# Altium footprint library MICROSMD110F-2.PcbLib: 2 footprints
Each footprint in its own frame and in the unit in brackets; x right, y up, seen from the top. Pads: shape width x height; smd on the part's side, far side on the other; paste and mask are expansions set on the pad; w line width, h text height; cw(c..) or ccw(c..) is an arc to the next point about the centre after c.
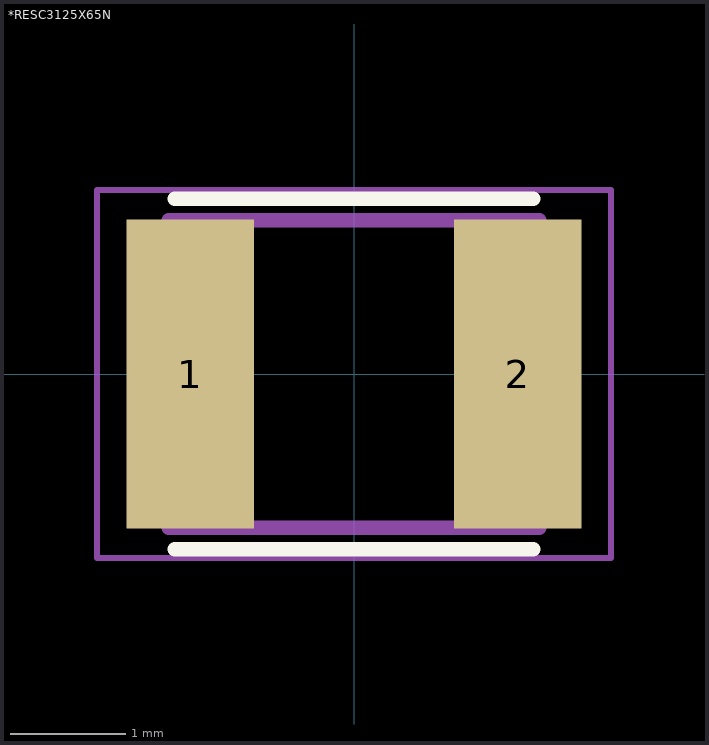
[diagram p0: the footprints below, top view; thin cyan lines are the x and y axes]

## *RESC3125X65N [mm]
pads (2):
  rect 1.1x2.67 smd: 1(-1.415,0) 2(1.415,0)
Top Overlay:
  lines w0.127: -1.55,-1.515 1.55,-1.515 ; -1.55,1.515 1.55,1.515
Mechanical 4:
  lines w0.127: -1.6,-1.33 -1.6,1.33 ; -1.6,-1.33 1.6,-1.33 ; -1.6,-1.33 -1.6,1.33 ; -1.6,-1.33 1.6,-1.33 ; -1.6,1.33 1.6,1.33 ; -1.6,1.33 1.6,1.33 ; 1.6,-1.33 1.6,1.33 ; 1.6,-1.33 1.6,1.33
Mechanical 16:
  lines w0.05: -2.22,-1.59 -2.22,1.59 2.22,1.59 2.22,-1.59 -2.22,-1.59

## PCBComponent_1 [mm]